# Altium footprint library SSOP-24.PcbLib: 1 footprints
Each footprint in its own frame and in the unit in brackets; x right, y up, seen from the top. Pads: shape width x height; smd on the part's side, far side on the other; paste and mask are expansions set on the pad; w line width, h text height; cw(c..) or ccw(c..) is an arc to the next point about the centre after c.
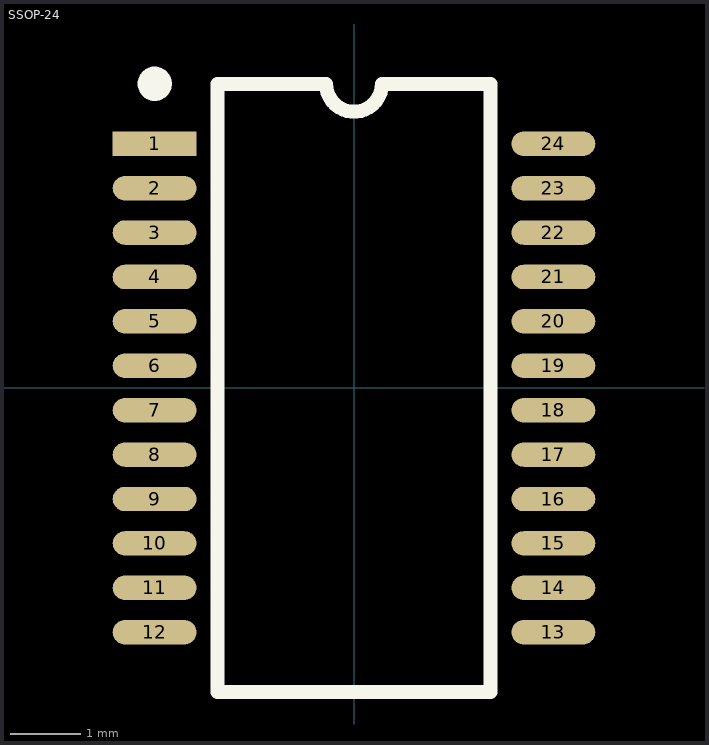
[diagram p0: the footprint, top view; thin cyan lines are the x and y axes]

## SSOP-24 [mm]
pads (24):
  rect 1.2x0.35 smd: 1(-2.85,3.492)
  oval 1.2x0.35 smd: 2(-2.85,2.857) 3(-2.85,2.222) 4(-2.85,1.587) 5(-2.85,0.953) 6(-2.85,0.318) 7(-2.85,-0.318) 8(-2.85,-0.953) 9(-2.85,-1.587) 10(-2.85,-2.222) 11(-2.85,-2.857) 12(-2.85,-3.492) 13(2.85,-3.492) 14(2.85,-2.857) 15(2.85,-2.222) 16(2.85,-1.587) 17(2.85,-0.953) 18(2.85,-0.318) 19(2.85,0.318) 20(2.85,0.953) 21(2.85,1.587) 22(2.85,2.222) 23(2.85,2.857) 24(2.85,3.492)
Top Overlay:
  circle w0.25: c-2.85,4.35 r0.12
  lines w0.2: -1.95,-4.35 -1.95,4.35 -0.4,4.35 ccw(c0,4.35) 0.4,4.35 1.95,4.35 1.95,-4.35 -1.95,-4.35
3D body "SSOP24L-150-0.64.STEP": height 1.63, standoff 0, extent -2.997,-4.385 2.997,4.335